# Altium schematic symbol library Sample.SchLib: 27 symbols
Pins are listed as number, name and electrical type; pins without a type are passive.

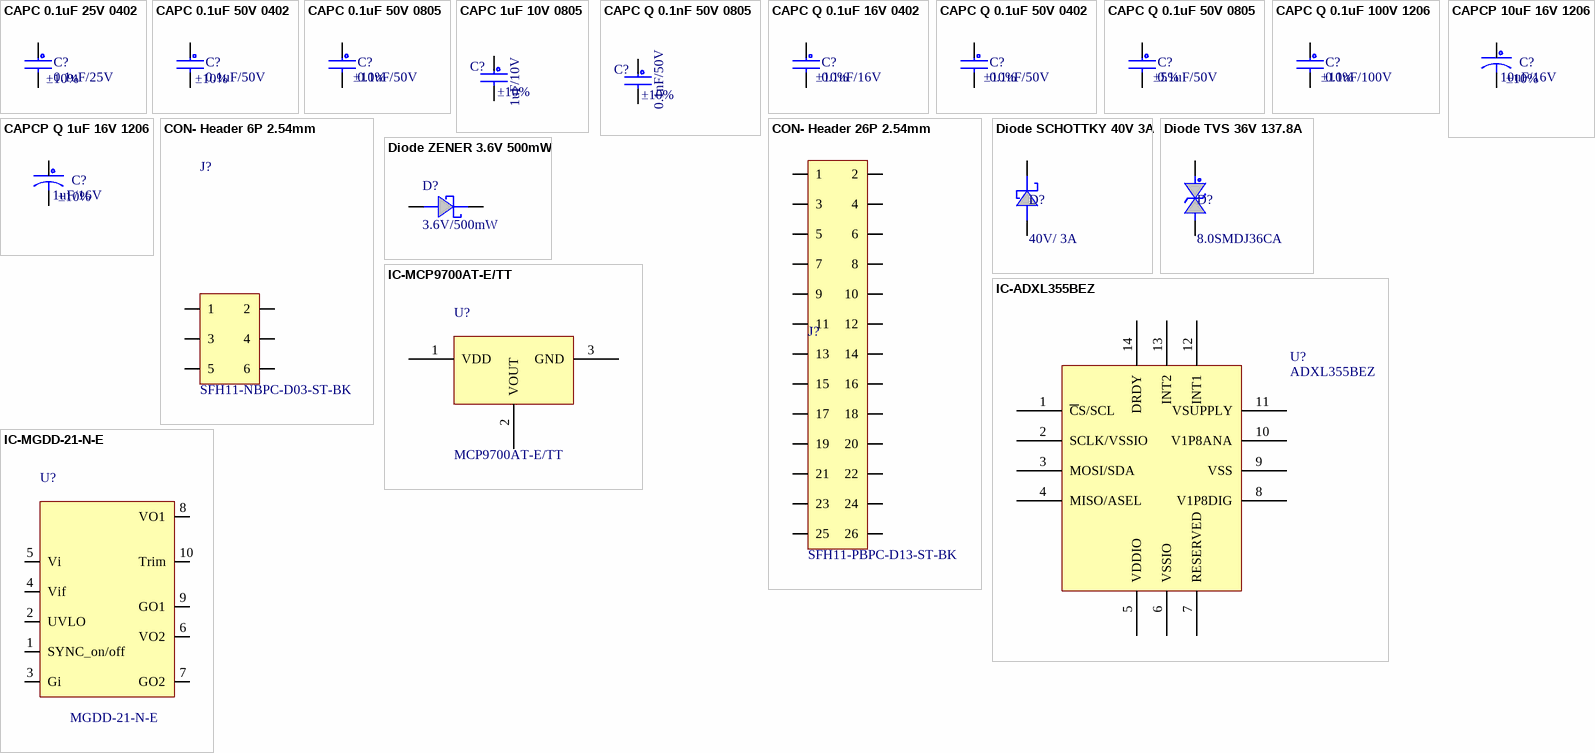
[diagram p0: symbols CAPC 0.1uF 25V 0402 to IC-MGDD-21-N-E]

## CAPC 0.1uF 25V 0402
designator C?, comment 0.1uF/25V  Tolerance: ±10%
MLCC-SMD 0.1uF 25V X7R ±10% 0402; Manufacturing Part No.: CS0402KRX7R8BB104; Alternative Part No.: GRM155C81E104KA12D; Component Grade: General; Make: Yageo; Item Code: '03039; ALT. Item Code: '; Package: '0402; Operating Temp.: -55°C to +125°C; Rated Voltage: 25V; Storage Temp.: -55°C to +125°C; ESD: -; MSL: Level 1; RoHS Compliant: Yes; ComponentLink1Description: Datasheet; ComponentLink1URL: https://www.yageo.com/upload/media/product/app/datasheet/mlcc/upy-st_npox7r_16v-to-3kv.pdf
footprint CAPC 0402 (Chip Capacitor, 2-Leads, Body 1.00x0.50mm, SM782A)
pins: 1, 2

## CAPC 0.1uF 50V 0402
designator C?, comment 0.1uF/50V  Tolerance: ±10%
MLCC-SMD 0.1uF 50V X5R ±10% 0402; Manufacturing Part No.: CC0402KRX5R9BB104; Alternative Part No.: C1005X7R1H104K050BE; Component Grade: General; Make: Yageo; Item Code: '03049; ALT. Item Code: '; Package: '0402; Operating Temp.: -55°C to +85°C; Rated Voltage: 50V; Storage Temp.: -55°C to +85°C; ESD: *; MSL: Level 1; RoHS Compliant: Yes; ComponentLink1Description: Datasheet; ComponentLink1URL: https://www.yageo.com/upload/media/product/app/datasheet/mlcc/upy-gphc_x5r_4v-to-50v.pdf
footprint CAPC 0402 (Chip Capacitor, 2-Leads, Body 1.00x0.50mm, SM782A)
pins: 1, 2

## CAPC 0.1uF 50V 0805
designator C?, comment 0.1uF/50V  Tolerance: ±10%
MLCC-SMD 0.1uf 50V X7R ±10% 0805; Manufacturing Part No.: MC0805B104K500CT; Alternative Part No.: CGA4J2X7R1H104K125AE; Component Grade: General; Make: Multicomp Pro; Item Code: 25034; ALT. Item Code: '; Package: '0805; Operating Temp.: -55°C to +125°C; Rated Voltage: 50V; Storage Temp.: -55°C to +125°C; ESD: *; MSL: -; RoHS Compliant: Yes; ComponentLink1Description: Datasheet; ComponentLink1URL: https://4donline.ihs.com/images/VipMasterIC/IC/SCMP/SCMP-S-A0009258786/SCMP-S-A0009258786-1.pdf?hkey=6D3A4C79FDBF58556ACFDE234799DDF0
footprint CAPC 0805 (CAP0805 (08051C102KAT2A  VJ0805Y104KXACW1BC)
pins: 1, 2

## CAPC 1uF 10V 0805
designator C?, comment 1uF/10V  Tolerance: ±10%
MLCC-SMD 1uF 10V X7R ±10% 0805; Manufacturing Part No.: MCN0805R105KCT; Alternative Part No.: EMK212BJ105KD-T; Component Grade: General; Make: MULTICOMP PRO; Item Code: 25129; ALT. Item Code: '; Package: '0805; Operating Temp.: -55°C to +85°C; Rated Voltage: 10V; Storage Temp.: -55°C to +85°C; ComponentLink1Description: Datasheet; ComponentLink1URL: https://www.farnell.com/datasheets/1825491.pdf?_gl=1*1rp93sk*_gcl_aw*R0NMLjE3NDMxMzgxOTEuQ2p3S0NBanc3cE9fQmhBbEVpd0E0cE1RdkNmWGhLTC1oNmN0X3B5T1ZpWkdTRmltZzE2LTBEQWJ5alVEVF9LS3JBRmozZ1A1YlVMWGFCb0NXa2tRQXZEX0J3RQ..*_gcl_au*MTc3NjkzNDI4Ni4xNzQxMjUyNDcz; ESD: *; MSL: Level 1; RoHS Compliant: Yes
footprint CAPC 0805 (CAP0805 (08051C102KAT2A  VJ0805Y104KXACW1BC)
pins: 1, 2

## CAPC Q 0.1nF 50V 0805
designator C?, comment 0.1nF/50V  Tolerance: ±10%
MLCC-SMD 0.1nF 50V X7R ±10% 0805; Manufacturing Part No.: 885012207080; Component Grade: Automotive (AEC-Q200); Make: Würth Elektronik; Item Code: '04088; ALT. Item Code: '; Package: '0805; Operating Temp.: -55°C to +125°C; Rated Voltage: 50V; Storage Temp.: -55°C to +125°C; ComponentLink1Description: Datasheet; ComponentLink1URL: https://www.we-online.com/components/products/datasheet/885012207080.pdf; ESD: *; MSL: Level 1; RoHS Compliant: Yes
footprint CAPC 0805 (CAP0805 (08051C102KAT2A  VJ0805Y104KXACW1BC)
pins: 1, 2

## CAPC Q 0.1uF 16V 0402
designator C?, comment 0.1uF/16V  Tolerance: ±10%
MLCC-SMD 0.1uF 16V X7R ±10% 0402; Manufacturing Part No.: C0402C104K4RECAUTO; Alternative Part No.: GCM155R71C104KA55J; Component Grade: Automotive (AEC-Q200); Make: KEMET; Item Code: 25174; ESD: Yes; ALT. Item Code: '; Package: '0402; Operating Temp.: -55°C to +125°C; Rated Voltage: 16V; Storage Temp.: -55°C to +125°C; MSL: Level 1; RoHS Compliant: Yes; ComponentLink1Description: Datasheet; ComponentLink1URL: https://content.kemet.com/datasheets/KEM_C1090_X7R_ESD.pdf
footprint CAPC 0402 (Chip Capacitor, 2-Leads, Body 1.00x0.50mm, SM782A)
pins: 1, 2

## CAPC Q 0.1uF 50V 0402
designator C?, comment 0.1uF/50V  Tolerance: ±10%
MLCC-SMD 0.1uF 50V X7R ±10% 0402; Manufacturing Part No.: GCM155R71H104KE02D; Alternative Part No.: UMK105B7104KV-FR; Component Grade: Automotive (AEC-Q200); Make: Murata Electronics; Item Code: '03044; ALT. Item Code: '; Package: '0402; Operating Temp.: -55°C to +125°C; Rated Voltage: 50V; Storage Temp.: -55°C to +125°C; ESD: *; MSL: Level 1; RoHS Compliant: Yes; ComponentLink1Description: Datasheet; ComponentLink1URL: https://search.murata.co.jp/Ceramy/image/img/A01X/G101/ENG/GCM155R71H104KE02-01.pdf
footprint CAPC 0402 (Chip Capacitor, 2-Leads, Body 1.00x0.50mm, SM782A)
pins: 1, 2

## CAPC Q 0.1uF 50V 0805
designator C?, comment 0.1uF/50V  Tolerance: ±5%
MLCC-SMD 0.1uf 50V X7R ±5% 0805; Manufacturing Part No.: C0805C104J5RACAUTO; Alternative Part No.: 08055C104J4Z4A; Component Grade: Automotive (AEC-Q200); Make: KEMET; Item Code: '04197; ALT. Item Code: '; Package: '0805; Operating Temp.: -55°C to +125°C; Rated Voltage: 50V; Storage Temp.: -55°C to +125°C; ESD: *; MSL: Level 1; RoHS Compliant: Yes; ComponentLink1Description: Datasheet; ComponentLink1URL: https://content.kemet.com/datasheets/KEM_C1027_X7R_COTS_SMD.pdf; Alt. Item Code: '
footprint CAPC 0805 (CAP0805 (08051C102KAT2A  VJ0805Y104KXACW1BC)
pins: 1, 2

## CAPC Q 0.1uF 100V 1206
designator C?, comment 0.1uF/100V  Tolerance: ±10%
MLCC-SMD 0.1uf 100V X7R ±10% 1206; Manufacturing Part No.: 12061C104K4T2A; Component Grade: Automotive (AEC-Q200); Make: KYOCERA AVX; Item Code: 25053; ALT. Item Code: '; Package: 1206; Operating Temp.: -55°C to +125°C; Rated Voltage: 100V; Storage Temp.: -55°C to +125°C; ESD: *; MSL: Level 1; RoHS Compliant: Yes; ComponentLink1Description: Datasheet; ComponentLink1URL: https://datasheets.kyocera-avx.com/AutoMLCC.pdf
footprint CAPC 1206 (GRM31BR72J103KW01L)
pins: 1, 2

## CAPCP 10uF 16V 1206
designator C?, comment 10uF/16V  Tolerance: ±10%
TANT-SMD 10uF 16V ±10% 1206; Manufacturing Part No.: TAJA106K016RNJ; Component Grade: General Purpose; Make: KYOCERA AVX; Item Code: '04507; ALT. Item Code: '; Package: 1206; Operating Temp.: -55°C to +125°C; Rated Voltage: 16V; Storage Temp.: -55°C to +125°C; ComponentLink1Description: Datasheet; ComponentLink1URL: https://datasheets.kyocera-avx.com/TAJ.pdf; ESD: -; MSL: Level 1; RoHS Compliant: Yes
footprint CAPCP 1206 (TAJA105K016RNJ ,TAJA476K006RNJ  , T491A474K025AT)
pins: 1, 2

## CAPCP Q 1uF 16V 1206
designator C?, comment 1uF/16V  Tolerance: ±10%
TANT-SMD 1uF 16V ±10% 1206; Manufacturing Part No.: TAJA105K016RNJ; Alternative Part No.: F971C105MAA; Component Grade: Automotive (AEC-Q200); Make: KYOCERA AVX; Item Code: '04505; ALT. Item Code: '; Package: 1206; Operating Temp.: -55°C to +125°C; Rated Voltage: 16V; Storage Temp.: -55°C to +125°C; ComponentLink1Description: Datasheet; ComponentLink1URL: https://datasheets.kyocera-avx.com/TAJ.pdf; ESD: -; MSL: Level 1; RoHS Compliant: Yes
footprint CAPCP 1206 (TAJA105K016RNJ ,TAJA476K006RNJ  , T491A474K025AT)
pins: 1, 2

## CON- Header 6P 2.54mm
designator J?, comment SFH11-NBPC-D03-ST-BK
CON-TH 6P ST F 2.54mm (7.62x5.08x8.51)mm; Component Grade: Industrial; Make: Sullins Connector Solutions; Item Code: '06762; Rated Current: 3A per pin; ALT. Item Code: '; Manufacturing Part No.: SFH11-NBPC-D03-ST-BK; Operating Temp.: -40°C to 105°C; Alternative Part No.: *; ComponentLink1Description: Datasheet; ComponentLink1URL: https://s3.amazonaws.com/catalogspreads-pdf/PAGE123%20.100%20SFH11%20SERIES%20FEMALE%20HDR%20ST%20RA.pdf; RoHS Compliant: Yes
footprint CON 2X3-SFH11-NBPC-D03-ST-BK (CONN HDR 6POS 2.54MM PITCH TH GOLD)
pins: 1, 2, 3, 4, 5, 6

## CON- Header 26P 2.54mm
designator J?, comment SFH11-PBPC-D13-ST-BK
CON-TH 26P ST F 2.54mm (33.02x5.08x8.51)mm; Component Grade: Industrial; Make: Sullins Connector Solutions; Item Code: '06761; Rated Current: 3A per pin; ALT. Item Code: '; Manufacturing Part No.: SFH11-PBPC-D13-ST-BK; Operating Temp.: -40°C to 105°C; RoHS Compliant: Yes; ComponentLink1Description: Datasheet; ComponentLink1URL: https://s3.amazonaws.com/catalogspreads-pdf/PAGE123%20.100%20SFH11%20SERIES%20FEMALE%20HDR%20ST%20RA.pdf; Alternative Part No.: *
footprint CON 2X13-SFH11-PBPC-D13-ST-BK (CONN HDR 26POS 2.54MM PITCH TH GOLD)
pins: 1, 2, 3, 4, 5, 6, 7, 8, 9, 10, 11, 12, 13, 14, 15, 16, 17, 18, 19, 20, 21, 22, 23, 24, 25, 26

## Diode SCHOTTKY 40V 3A
designator D?, comment 40V/ 3A
SCHOTTKY-SMD 40V 3A DSN-2; Manufacturing Part No.: B340A-13-F; Alternative Part No.: MBRA340T3G/ CMSH3-40MA TR13 PBFREE; Component Grade: Automotive (AEC-Q101); Make: Diodes Incorporated; Item code: '07011; ALT. Item Code: '; Package: SMA (DO-214AC); Operating Temp.: -55°C to +125°C; Storage Temp.: -55°C to +150°C; RoHS Compliant: Yes; ESD: -; MSL: Level 1; ComponentLink1Description: Datasheet; ComponentLink1URL: https://www.diodes.com/assets/Datasheets/ds30891.pdf
footprint DO-SMA (4.3X2.605mm SMA pkg  B320A - B360A , B120/B-B160/B Series, B150-13-F)
pins: 1 CATHODE, 2 ANODE

## Diode TVS 36V 137.8A
designator D?, comment 8.0SMDJ36CA
TVS DIODE-SMD 36V 40V 58.1V 137.8A DO214AB; Component Grade: Automotive (AEC-Q200); Make: Littelfuse; Tolerance: 5%; Rated Wattage: 8 kW; Item Code: '07282; ESD: Yes; ALT. Item Code: '; Manufacturing Part No.: 8.0SMDJ36CA; Package: DO-214AB-2; Operating Temp.: -65°C to +150°C; Alternative Part No.: -; Storage Temp.: -65°C to +175°C; RoHS Compliant: Yes; MSL: Level 1; ComponentLink1Description: Datasheet; ComponentLink1URL: https://www.littelfuse.com/assetdocs/littelfuse_tvs_diode_8_0smdj_datasheet.pdf?assetguid=04320fb8-6c00-4e38-ad2c-1822ca8699e7
footprint DO-214AB-2 (8.0SMDJ36CA)
pins: 1 ANODE, 2 CATHODE

## Diode ZENER 3.6V 500mW
designator D?, comment 3.6V/500mW
Zener Diode 3.6 V 500 mW ±5% SMD-SOD-123; Manufacturing Part No.: SZMMSZ4685T1G; Component Grade: Automotive (AEC-Q101); Make: onsemi; Rated Wattage: 500mW; Item Code: '07295; ALT. Item Code: '; Package: SOD-123; Operating Temp.: -55°C to +150°C; Storage Temp.: -55°C to +150°C; Alternative Part No.: -; Tolerance: ±5%; ComponentLink1Description: Datasheet; ComponentLink1URL: https://www.onsemi.com/pdf/datasheet/mmsz4678t1-d.pdf; MSL: Level 1; ROHS COMPLIANT: Yes; ESD: *
footprint SOD-123 (2.6 X 1.6mm (MMSZ4xxxT1G Series,  SZMMSZ4xxxT1G Series, MMSZxxxT1G series)(MMSZ4685T1G ,MMSZ4681T1G, MMSZ4687T1G, MMSZ4698T1G, MMSZ3V6T1G, MMSZ4693T1G)
pins: 1 ANODE, 2 CATHODE

## IC-ADXL355BEZ
designator U?, comment ADXL355BEZ
IC-SMD ACC 3-Axis 20bit I2C/SPI LCC-14; Component Grade: Automotive; Make: Analog Devices Inc.; Item Code: '09370; ALT. Item Code: '; Manufacturing Part No.: ADXL355BEZ; Package: LCC-14; Operating Temp.: - 40 °C to +125 °C; Alternative Part No.: *; Storage Temp.: - 55°C to +150 °C; RoHS Compliant: Yes; ESD: *; MSL: Level 1; ComponentLink1Description: Datasheet; ComponentLink1URL: https://www.analog.com/media/en/technical-documentation/data-sheets/ADXL354_355.pdf
footprint LCC6X6-14 - 4-3P (ADXL355BEZ)
pins: 1 ~{C}S/SCL (power), 2 SCLK/VSSIO (power), 3 MOSI/SDA (power), 4 MISO/ASEL, 5 VDDIO (power), 6 VSSIO (power), 7 RESERVED, 8 V1P8DIG (power), 9 VSS (power), 10 V1P8ANA (power), 11 VSUPPLY (power), 12 INT1 (power), 13 INT2 (power), 14 DRDY (power)

## IC-MCP9700AT-E/TT
designator U?, comment MCP9700AT-E/TT
IC-SMD Temperature Sensor Vi-2.3-5.5V Vo-0.5-4.5V 10mV/°C ±1; Component Grade: Automotive; Make: Microchip; Item Code: '09111; ESD: Yes; Tolerance: ±1%; ALT. Item Code: '; Manufacturing Part No.: MCP9700AT-E/TT; Package: SC-70-5; Operating Temp.: -40°C to +125°C; Alternative Part No.: -; Storage Temp.: -60°C to +150°C; RoHS Compliant: Yes; MSL: Level 1; ComponentLink1Description: Datasheet; ComponentLink1URL: https://ww1.microchip.com/downloads/en/devicedoc/20001942g.pdf; Alt. Item Code: '
footprint SOT-23 (2.9 X 1.3mm ( DBZ pkg dwg)CDSOT23-SM712, SBC817-16LT3G, NUP2105LT1G, MAX6101EUR+T, GSOT03C-HE3-08 , MMBZ12VALT1G, BSS123NH6433XTMA1, DZ23C16-7-F, TPD2E2U06QDBZRQ, , BAS40 Series, AP2120N-1.8TRG1,AP7333-33SAG-7, MCP1700T-3002E/TT, AP2120N-3.0TRG1,AP7384-50SA-7, MCP9700AT-E/TT, TPD2E2U06QDBZRQ1, TMP235AQDBZTQ1)
pins: 1 VDD, 2 VOUT, 3 GND

## IC-MGDD-21-N-E
designator U?, comment MGDD-21-N-E
IC-TH Iso DC/DC Vi-9-60V Vo-12V 0.83A (33.02x20.32x12)mm; Component Grade: Military Grade; Make: Gaia; Item Code: '09449; tolerance: ±1%; Rated Wattage: 20W (17W per channel); ALT. Item Code: '; Manufacturing Part No.: MGDD-21-N-E; Package: TH_33x26.5x8.2mm; Operating Temp.: - 40°C to +105°C; Storage Temp.: - 55°C to +125°C; ComponentLink1Description: Datasheet; ComponentLink1URL: https://gaia-converter.com/docs/ds/MGDD21W.pdf; Alternative Part No.: *; RoHS Compliant: Yes; ESD: *; MSL: N/A
footprint CONV_MGDD-08-N-E (Class-3)
pins: 1 SYNC_on/off, 2 UVLO, 3 Gi, 4 Vif, 5 Vi, 6 VO2, 7 GO2, 8 VO1, 9 GO1, 10 Trim

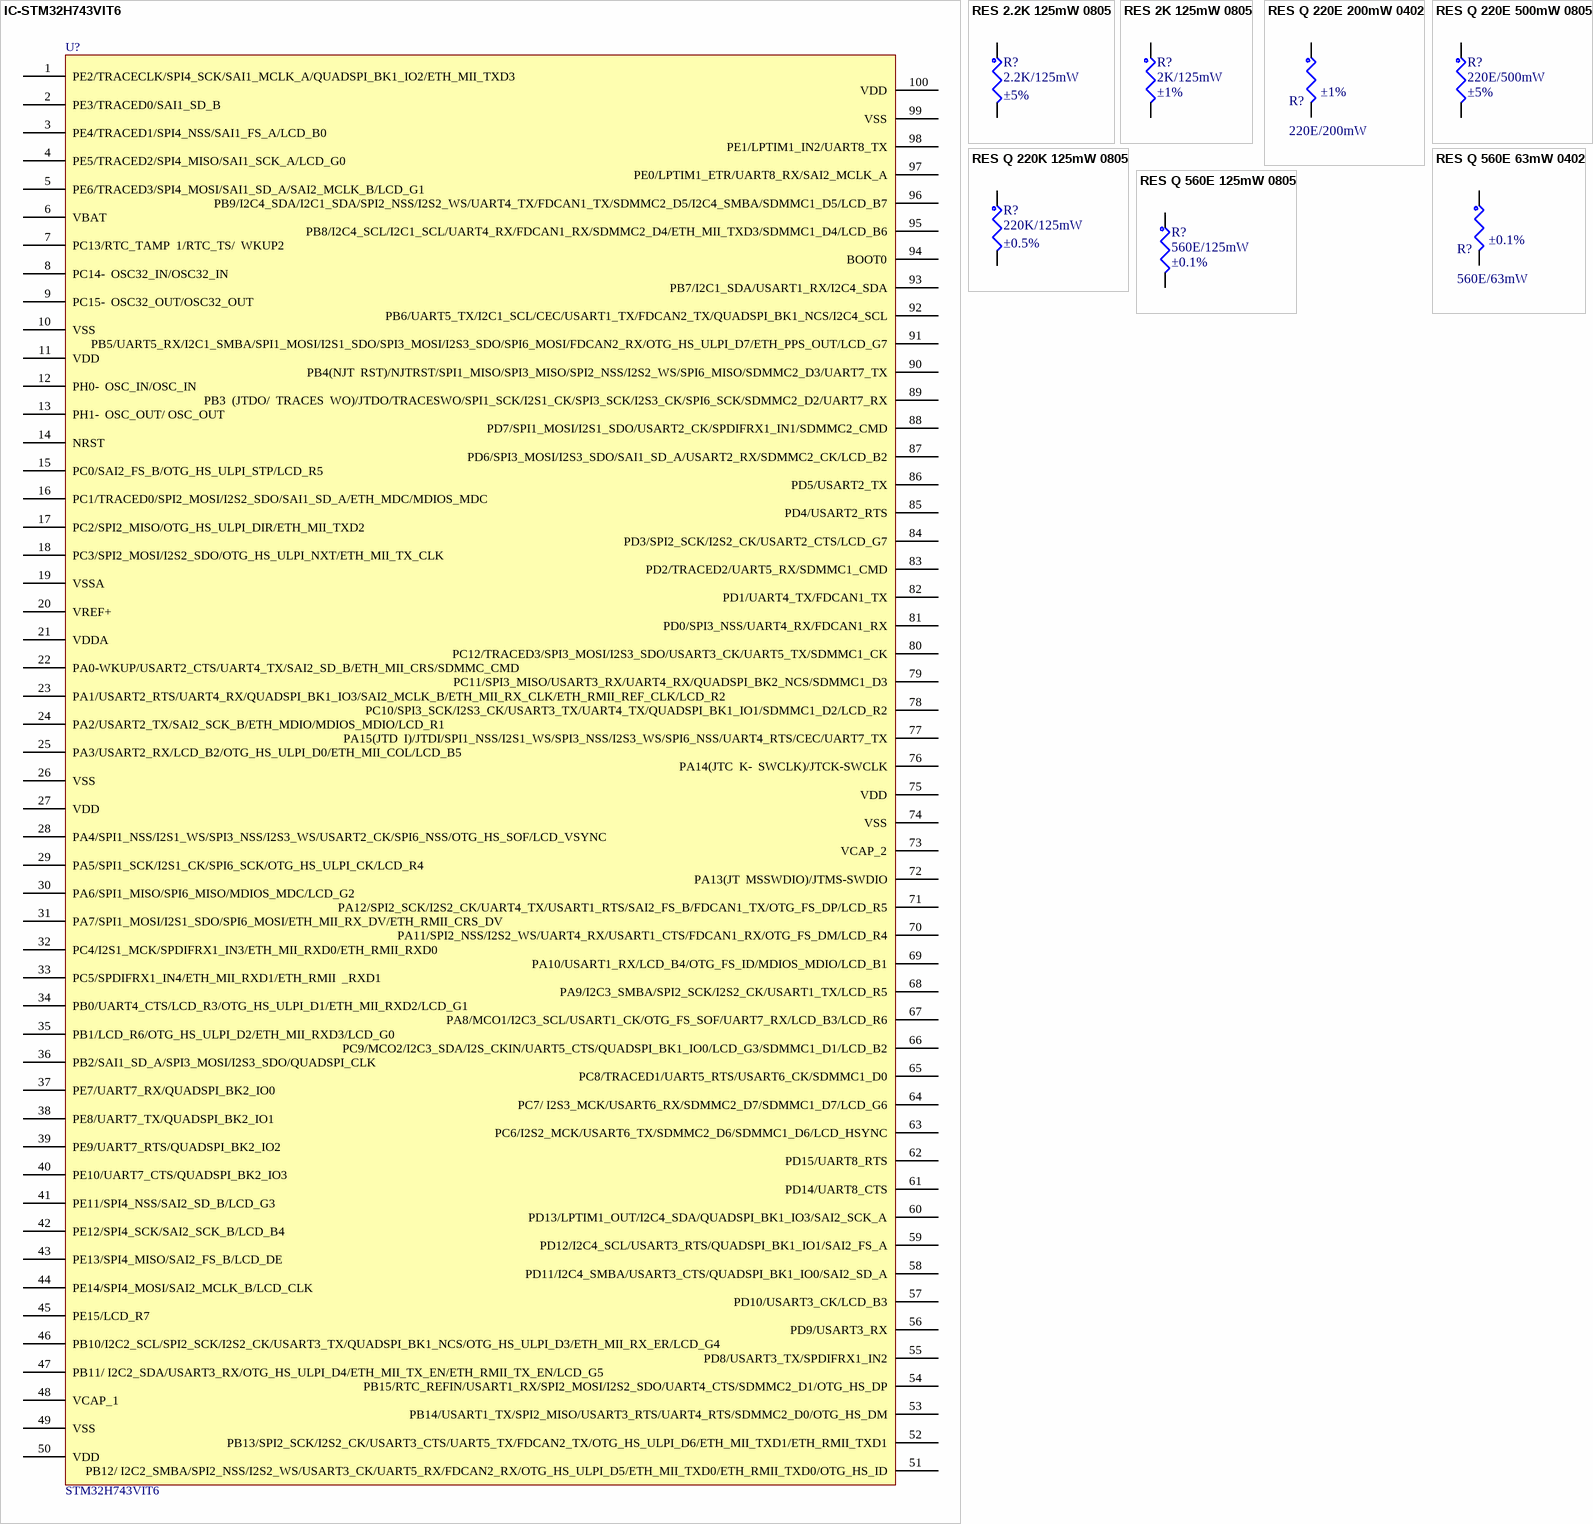
[diagram p1: symbols IC-STM32H743VIT6 to RES Q 560E 125mW 0805]

## IC-STM32H743VIT6
designator U?, comment STM32H743VIT6
IC-SMD MCU 32bit ARM Cortex-M7 F-2MB 480Mhz 100-LQFP; Component Grade: Industrial; Make: STMicroelectronics; Item Code: '09149; ESD: Yes; ALT. Item Code: '; Manufacturing Part No.: STM32H743VIT6; Package: LQFP-100; Operating Temp.: -40°C to +85°C; Alternative Part No.: -; Storage Temp.: -65°C to +150°C; ComponentLink1Description: Datasheet; ComponentLink1URL: https://www.st.com/resource/en/datasheet/stm32h743bi.pdf; RoHS Compliant: Yes; MSL: Level 3
footprint LQFP-100 (14X14mm  LPC2387FBD100,551 ,STM32F765VGT6)
pins: 1 PE2/TRACECLK/SPI4_SCK/SAI1_MCLK_A/QUADSPI_BK1_IO2/ETH_MII_TXD3, 2 PE3/TRACED0/SAI1_SD_B, 3 PE4/TRACED1/SPI4_NSS/SAI1_FS_A/LCD_B0, 4 PE5/TRACED2/SPI4_MISO/SAI1_SCK_A/LCD_G0, 5 PE6/TRACED3/SPI4_MOSI/SAI1_SD_A/SAI2_MCLK_B/LCD_G1, 6 VBAT (power), 7 PC13/RTC_TAMP  1/RTC_TS/  WKUP2, 8 PC14-  OSC32_IN/OSC32_IN, 9 PC15-  OSC32_OUT/OSC32_OUT, 10 VSS (power), 11 VDD (power), 12 PH0-  OSC_IN/OSC_IN, 13 PH1-  OSC_OUT/ OSC_OUT, 14 NRST, 15 PC0/SAI2_FS_B/OTG_HS_ULPI_STP/LCD_R5, 16 PC1/TRACED0/SPI2_MOSI/I2S2_SDO/SAI1_SD_A/ETH_MDC/MDIOS_MDC, 17 PC2/SPI2_MISO/OTG_HS_ULPI_DIR/ETH_MII_TXD2, 18 PC3/SPI2_MOSI/I2S2_SDO/OTG_HS_ULPI_NXT/ETH_MII_TX_CLK, 19 VSSA (power), 20 VREF+ (power), 21 VDDA (power), 22 PA0-WKUP/USART2_CTS/UART4_TX/SAI2_SD_B/ETH_MII_CRS/SDMMC_CMD, 23 PA1/USART2_RTS/UART4_RX/QUADSPI_BK1_IO3/SAI2_MCLK_B/ETH_MII_RX_CLK/ETH_RMII_REF_CLK/LCD_R2, 24 PA2/USART2_TX/SAI2_SCK_B/ETH_MDIO/MDIOS_MDIO/LCD_R1, 25 PA3/USART2_RX/LCD_B2/OTG_HS_ULPI_D0/ETH_MII_COL/LCD_B5, 26 VSS (power), 27 VDD (power), 28 PA4/SPI1_NSS/I2S1_WS/SPI3_NSS/I2S3_WS/USART2_CK/SPI6_NSS/OTG_HS_SOF/LCD_VSYNC, 29 PA5/SPI1_SCK/I2S1_CK/SPI6_SCK/OTG_HS_ULPI_CK/LCD_R4, 30 PA6/SPI1_MISO/SPI6_MISO/MDIOS_MDC/LCD_G2, 31 PA7/SPI1_MOSI/I2S1_SDO/SPI6_MOSI/ETH_MII_RX_DV/ETH_RMII_CRS_DV, 32 PC4/I2S1_MCK/SPDIFRX1_IN3/ETH_MII_RXD0/ETH_RMII_RXD0, 33 PC5/SPDIFRX1_IN4/ETH_MII_RXD1/ETH_RMII  _RXD1, 34 PB0/UART4_CTS/LCD_R3/OTG_HS_ULPI_D1/ETH_MII_RXD2/LCD_G1, 35 PB1/LCD_R6/OTG_HS_ULPI_D2/ETH_MII_RXD3/LCD_G0, 36 PB2/SAI1_SD_A/SPI3_MOSI/I2S3_SDO/QUADSPI_CLK (power), 37 PE7/UART7_RX/QUADSPI_BK2_IO0, 38 PE8/UART7_TX/QUADSPI_BK2_IO1, 39 PE9/UART7_RTS/QUADSPI_BK2_IO2, 40 PE10/UART7_CTS/QUADSPI_BK2_IO3, 41 PE11/SPI4_NSS/SAI2_SD_B/LCD_G3, 42 PE12/SPI4_SCK/SAI2_SCK_B/LCD_B4, 43 PE13/SPI4_MISO/SAI2_FS_B/LCD_DE, 44 PE14/SPI4_MOSI/SAI2_MCLK_B/LCD_CLK, 45 PE15/LCD_R7, 46 PB10/I2C2_SCL/SPI2_SCK/I2S2_CK/USART3_TX/QUADSPI_BK1_NCS/OTG_HS_ULPI_D3/ETH_MII_RX_ER/LCD_G4, 47 PB11/ I2C2_SDA/USART3_RX/OTG_HS_ULPI_D4/ETH_MII_TX_EN/ETH_RMII_TX_EN/LCD_G5, 48 VCAP_1 (power), 49 VSS (power), 50 VDD (power), 51 PB12/ I2C2_SMBA/SPI2_NSS/I2S2_WS/USART3_CK/UART5_RX/FDCAN2_RX/OTG_HS_ULPI_D5/ETH_MII_TXD0/ETH_RMII_TXD0/OTG_HS_ID, 52 PB13/SPI2_SCK/I2S2_CK/USART3_CTS/UART5_TX/FDCAN2_TX/OTG_HS_ULPI_D6/ETH_MII_TXD1/ETH_RMII_TXD1, 53 PB14/USART1_TX/SPI2_MISO/USART3_RTS/UART4_RTS/SDMMC2_D0/OTG_HS_DM, 54 PB15/RTC_REFIN/USART1_RX/SPI2_MOSI/I2S2_SDO/UART4_CTS/SDMMC2_D1/OTG_HS_DP, 55 PD8/USART3_TX/SPDIFRX1_IN2, 56 PD9/USART3_RX, 57 PD10/USART3_CK/LCD_B3, 58 PD11/I2C4_SMBA/USART3_CTS/QUADSPI_BK1_IO0/SAI2_SD_A, 59 PD12/I2C4_SCL/USART3_RTS/QUADSPI_BK1_IO1/SAI2_FS_A, 60 PD13/LPTIM1_OUT/I2C4_SDA/QUADSPI_BK1_IO3/SAI2_SCK_A, 61 PD14/UART8_CTS, 62 PD15/UART8_RTS, 63 PC6/I2S2_MCK/USART6_TX/SDMMC2_D6/SDMMC1_D6/LCD_HSYNC, 64 PC7/ I2S3_MCK/USART6_RX/SDMMC2_D7/SDMMC1_D7/LCD_G6, 65 PC8/TRACED1/UART5_RTS/USART6_CK/SDMMC1_D0, 66 PC9/MCO2/I2C3_SDA/I2S_CKIN/UART5_CTS/QUADSPI_BK1_IO0/LCD_G3/SDMMC1_D1/LCD_B2, 67 PA8/MCO1/I2C3_SCL/USART1_CK/OTG_FS_SOF/UART7_RX/LCD_B3/LCD_R6, 68 PA9/I2C3_SMBA/SPI2_SCK/I2S2_CK/USART1_TX/LCD_R5, 69 PA10/USART1_RX/LCD_B4/OTG_FS_ID/MDIOS_MDIO/LCD_B1, 70 PA11/SPI2_NSS/I2S2_WS/UART4_RX/USART1_CTS/FDCAN1_RX/OTG_FS_DM/LCD_R4, 71 PA12/SPI2_SCK/I2S2_CK/UART4_TX/USART1_RTS/SAI2_FS_B/FDCAN1_TX/OTG_FS_DP/LCD_R5, 72 PA13(JT  MSSWDIO)/JTMS-SWDIO, 73 VCAP_2 (power), 74 VSS (power), 75 VDD (power), 76 PA14(JTC  K-  SWCLK)/JTCK-SWCLK, 77 PA15(JTD  I)/JTDI/SPI1_NSS/I2S1_WS/SPI3_NSS/I2S3_WS/SPI6_NSS/UART4_RTS/CEC/UART7_TX, 78 PC10/SPI3_SCK/I2S3_CK/USART3_TX/UART4_TX/QUADSPI_BK1_IO1/SDMMC1_D2/LCD_R2, 79 PC11/SPI3_MISO/USART3_RX/UART4_RX/QUADSPI_BK2_NCS/SDMMC1_D3, 80 PC12/TRACED3/SPI3_MOSI/I2S3_SDO/USART3_CK/UART5_TX/SDMMC1_CK, 81 PD0/SPI3_NSS/UART4_RX/FDCAN1_RX, 82 PD1/UART4_TX/FDCAN1_TX, 83 PD2/TRACED2/UART5_RX/SDMMC1_CMD, 84 PD3/SPI2_SCK/I2S2_CK/USART2_CTS/LCD_G7, 85 PD4/USART2_RTS, 86 PD5/USART2_TX, 87 PD6/SPI3_MOSI/I2S3_SDO/SAI1_SD_A/USART2_RX/SDMMC2_CK/LCD_B2, 88 PD7/SPI1_MOSI/I2S1_SDO/USART2_CK/SPDIFRX1_IN1/SDMMC2_CMD, 89 PB3  (JTDO/  TRACES  WO)/JTDO/TRACESWO/SPI1_SCK/I2S1_CK/SPI3_SCK/I2S3_CK/SPI6_SCK/SDMMC2_D2/UART7_RX, 90 PB4(NJT  RST)/NJTRST/SPI1_MISO/SPI3_MISO/SPI2_NSS/I2S2_WS/SPI6_MISO/SDMMC2_D3/UART7_TX, 91 PB5/UART5_RX/I2C1_SMBA/SPI1_MOSI/I2S1_SDO/SPI3_MOSI/I2S3_SDO/SPI6_MOSI/FDCAN2_RX/OTG_HS_ULPI_D7/ETH_PPS_OUT/LCD_G7, 92 PB6/UART5_TX/I2C1_SCL/CEC/USART1_TX/FDCAN2_TX/QUADSPI_BK1_NCS/I2C4_SCL, 93 PB7/I2C1_SDA/USART1_RX/I2C4_SDA, 94 BOOT0, 95 PB8/I2C4_SCL/I2C1_SCL/UART4_RX/FDCAN1_RX/SDMMC2_D4/ETH_MII_TXD3/SDMMC1_D4/LCD_B6, 96 PB9/I2C4_SDA/I2C1_SDA/SPI2_NSS/I2S2_WS/UART4_TX/FDCAN1_TX/SDMMC2_D5/I2C4_SMBA/SDMMC1_D5/LCD_B7, 97 PE0/LPTIM1_ETR/UART8_RX/SAI2_MCLK_A, 98 PE1/LPTIM1_IN2/UART8_TX, 99 VSS (power), 100 VDD (power)

## RES 2.2K 125mW 0805
designator R?, comment 2.2K/125mW  Tolerance: ±5%
Thick Film Resistors - SMD 2.2K 125mW ±5% 0805; Manufacturing Part No.: MCWR08X2201FTL; Alternative Part No.: SG73P2ATTD222J; Component Grade: General; Make: MULTICOMP PRO; Item Code: '01262; ALT. Item Code: '; Package: '0805; Operating Temp.: -55°C to 155°C; Rated Wattage: 125mW; Storage Temp.: -55°C to 155°C; ESD: *; MSL: Level 1; RoHS Compliant: Yes; ComponentLink1Description: Datasheet; ComponentLink1URL: https://www.yageo.com/upload/media/product/products/datasheet/rchip/PYu-RC_Group_51_RoHS_L_12.pdf
footprint RESC 0805 (RES0805)
pins: 1, 2

## RES 2K 125mW 0805
designator R?, comment 2K/125mW  Tolerance: ±1%
Thick Film Resistors - SMD 2K 125mW ±1% 0805; Manufacturing Part No.: MCWR08X2001FTL; Alternative Part No.: RC0805FR-072KL; Component Grade: General; Make: MULTICOMP PRO; Item Code: '02068; ALT. Item Code: '; Package: '0805; Operating Temp.: -55°C to +155°C; Rated Wattage: 125mW; Storage Temp.: -55°C to +155°C; ESD: *; MSL: Level 1; RoHS Compliant: Yes; ComponentLink1Description: Datasheet; ComponentLink1URL: https://www.farnell.com/datasheets/2563624.pdf?_gl=1*q5bn1s*_gcl_aw*R0NMLjE3NDI5NzM3NzEuQ2owS0NRand5NDZfQmhET0FSSXNBSXZtY3dPaGhhRmVCSGp5RnZ2OVI2ZmplSGZLX2xpTDg1VXRUTkpZblAzLTV3WVUybUNOclpVWlBhNGFBbGVJRUFMd193Y0I.*_gcl_au*MTc3NjkzNDI4Ni4xNzQxMjUyNDcz
footprint RESC 0805 (RES0805)
pins: 1, 2

## RES Q 220E 200mW 0402
designator R?, comment 220E/200mW  Tolerance: ±1%
Thick Film Resistors - SMD 220E 200mW ±1% 0402; Manufacturing Part No.: RCS0402220RFKED; Make: Vishay Dale; Component Grade: Automotive (AEC-Q200); Item Code: '02273; ALT. Item Code: '; Package: '0402; Operating Temp.: -55°C to +155°C; Rated Wattage: 200mW; Storage Temp.: -55°C to +155°C; Alternative Part No.: *; ESD: *; MSL: Level 1; RoHS Compliant: YES; ComponentLink1Description: Datasheet; ComponentLink1URL: https://www.vishay.com/docs/20065/rcse3.pdf
footprint RESC 0402 (Chip Resistor, 2-Leads, Body 1.00x0.50mm, SM782A)
pins: 1, 2

## RES Q 220E 500mW 0805
designator R?, comment 220E/500mW  Tolerance: ±5%
Thick Film Resistors - SMD 220E 500mW ±5% 0805; Manufacturing Part No.: CRCW0805220RJNEAHP; Component Grade: Automotive (AEC-Q200); Make: Vishay Dale; Item Code: '01119; ALT. Item Code: '; Package: '0805; Operating Temp.: -55°C to +155°C; Rated Wattage: 500mW; Alternative Part No.: *; Storage Temp.: -55°C to +155°C; ESD: *; MSL: Level 1; RoHS Compliant: Yes; ComponentLink1Description: Datasheet; ComponentLink1URL: https://www.vishay.com/docs/20043/crcwhpe3.pdf
footprint RESC 0805 (RES0805)
pins: 1, 2

## RES Q 220K 125mW 0805
designator R?, comment 220K/125mW  Tolerance: ±0.5%
Thin Film Resistors - SMD 220K 125mW ±0.5% 0805; Manufacturing Part No.: ERA-6AED224V; Component Grade: Automotive (AEC-Q200); Make: Panasonic; Item Code: '01061; ALT. Item Code: '; Package: '0805; Operating Temp.: -55°C to 155°C; Rated Wattage: 125mW; Storage Temp.: -55°C to 155°C; Alternative Part No.: *; ESD: *; MSL: Level 1; RoHS Compliant: Yes; ComponentLink1Description: Datasheet; ComponentLink1URL: https://industrial.panasonic.com/cdbs/www-data/pdf/RDM0000/AOA0000C307.pdf
footprint RESC 0805 (RES0805)
pins: 1, 2

## RES Q 560E 63mW 0402
designator R?, comment 560E/63mW  Tolerance: ±0.1%
Thin Film Resistors - SMD 560E 63mW ±0.1% 0402; Manufacturing Part No.: ERA-2ARB561X; Make: Panasonic; Component Grade: Automotive (AEC-Q200); Item Code: '00033; ALT. Item Code: '; Package: '0402; Operating Temp.: -55°C to +155°C; Rated Wattage: 63mW; Storage Temp.: -55°C to +155°C; Alternative Part No.: *; ESD: *; MSL: Level 1; RoHS Compliant: YES; ComponentLink1Description: Datasheet; ComponentLink1URL: https://www.vishay.com/docs/20065/rcse3.pdf
footprint RESC 0402 (Chip Resistor, 2-Leads, Body 1.00x0.50mm, SM782A)
pins: 1, 2

## RES Q 560E 125mW 0805
designator R?, comment 560E/125mW  Tolerance: ±0.1%
Thin Film Resistors - SMD 560E 125mW ±0.1% 0805; Manufacturing Part No.: ERA-6AEB561V; Alternative Part No.: ERA6AEB561V; Component Grade: Automotive (AEC-Q200); Make: Panasonic; Item Code: '01059; ALT. Item Code: '; Package: '0805; Operating Temp.: -55°C to 155°C; Rated Wattage: 125 mW; Storage Temp.: -55°C to 155°C; ESD: *; MSL: Level 1; RoHS Compliant: Yes; ComponentLink1Description: Datasheet; ComponentLink1URL: https://industrial.panasonic.com/cdbs/www-data/pdf/RDM0000/AOA0000C307.pdf
footprint RESC 0805 (RES0805)
pins: 1, 2